# Altium footprint library ES_Pcb.PcbLib: 383 footprints (part 23 of 24)
Each footprint in its own frame and in the unit in brackets; x right, y up, seen from the top. Pads: shape width x height; smd on the part's side, far side on the other; paste and mask are expansions set on the pad; w line width, h text height; cw(c..) or ccw(c..) is an arc to the next point about the centre after c.
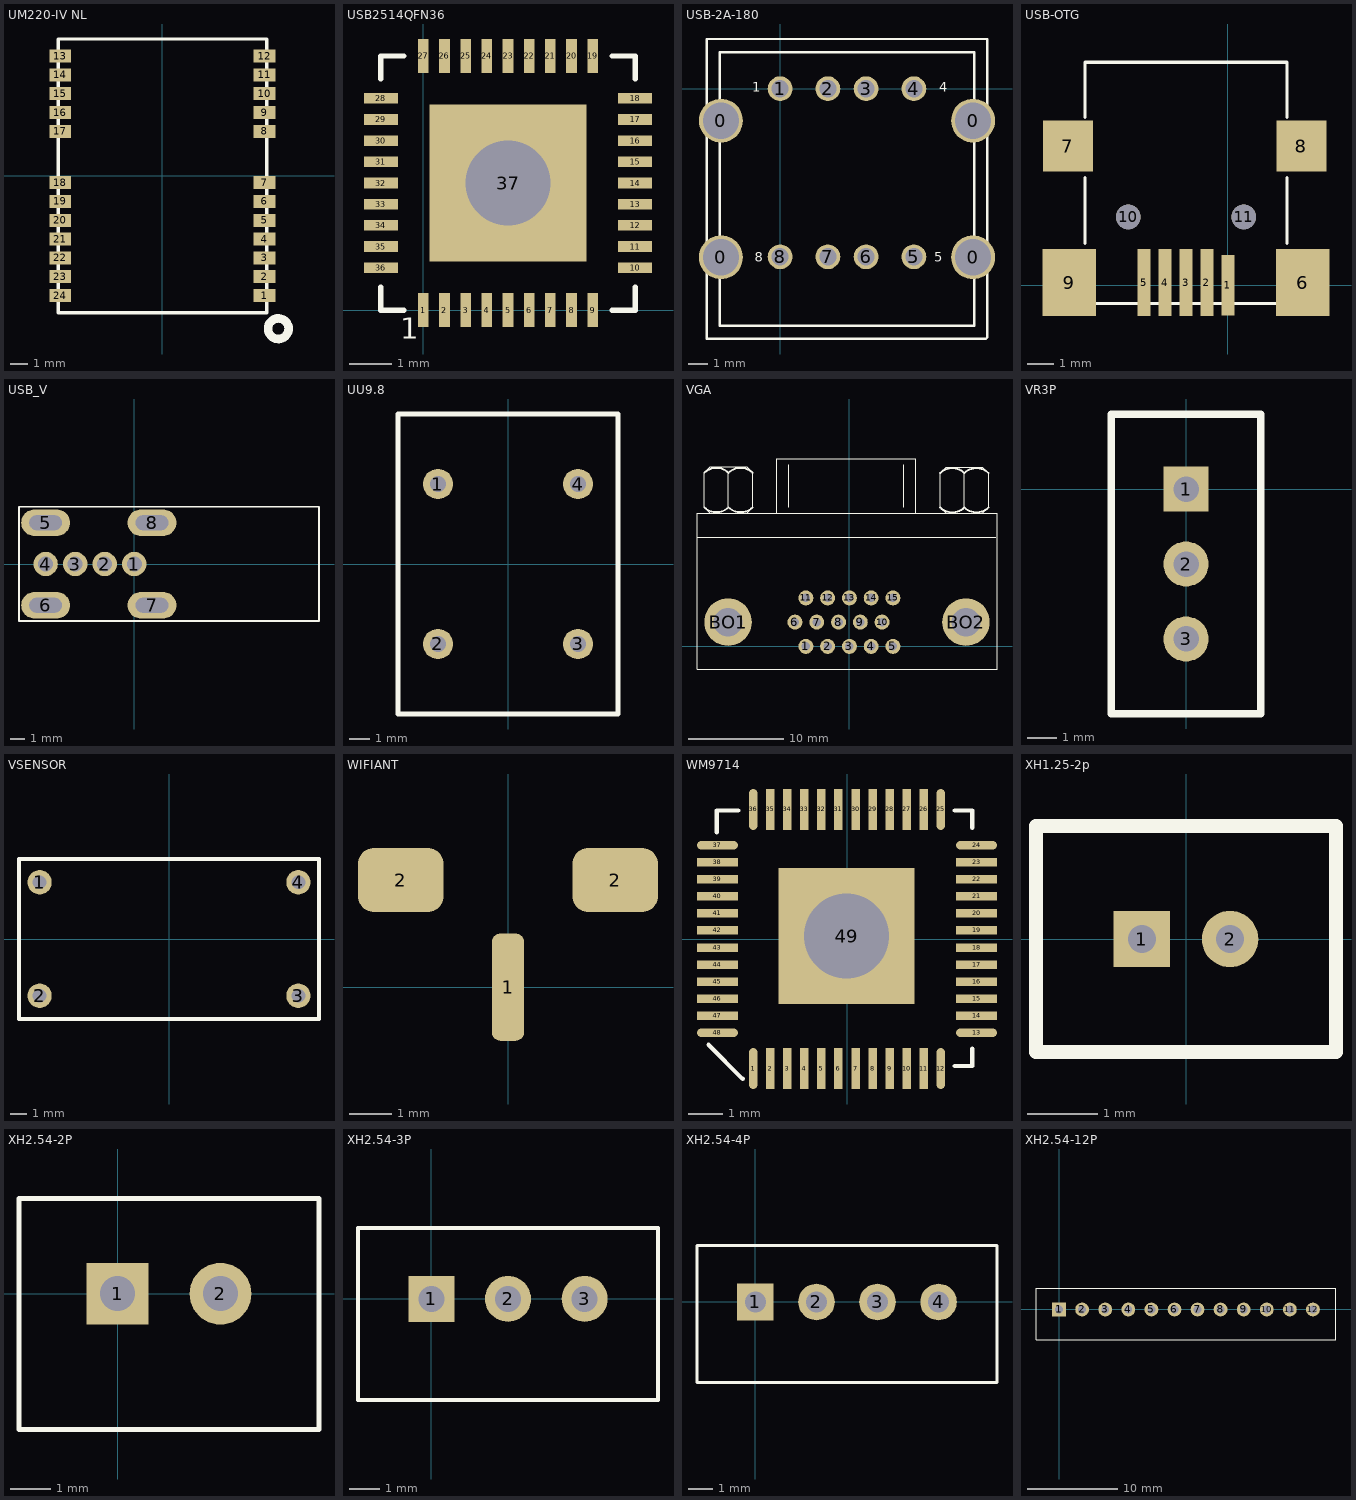
[diagram p22: the footprints below, top view; thin cyan lines are the x and y axes]

## UM220-IV NL [mm]
pads (24):
  rect 1.27x0.76 smd: 1(5.975,-7) 2(5.975,-5.9) 3(5.975,-4.8) 4(5.975,-3.7) 5(5.975,-2.6) 6(5.975,-1.5) 7(5.975,-0.4) 8(5.975,2.6) 9(5.975,3.7) 10(5.975,4.8) 11(5.975,5.9) 12(5.975,7) 13(-5.975,7) 14(-5.975,5.9) 15(-5.975,4.8) 16(-5.975,3.7) 17(-5.975,2.6) 18(-5.975,-0.4) 19(-5.975,-1.5) 20(-5.975,-2.6) 21(-5.975,-3.7) 22(-5.975,-4.8) 23(-5.975,-5.9) 24(-5.975,-7)
Top Overlay:
  circle w0.5: c6.778,-8.94 r0.602
  lines w0.2: -6.1,-8 -6.1,8 6.1,8 6.1,-8 -6.1,-8

## USB2514QFN36 [mm]
pads (37):
  rect 0.25x0.8 smd: 1(0,0) 2(0.5,0) 3(1,0) 4(1.5,0) 5(2,0) 6(2.5,0) 7(3,0) 8(3.5,0) 9(4,0) 19(4,6) 20(3.5,6) 21(3,6) 22(2.5,6) 23(2,6) 24(1.5,6) 25(1,6) 26(0.5,6) 27(0,6)
  rect 0.8x0.25 smd: 10(5,1) 11(5,1.5) 12(5,2) 13(5,2.5) 14(5,3) 15(5,3.5) 16(5,4) 17(5,4.5) 18(5,5) 28(-1,5) 29(-1,4.5) 30(-1,4) 31(-1,3.5) 32(-1,3) 33(-1,2.5) 34(-1,2) 35(-1,1.5) 36(-1,1)
  rect 3.7x3.7 hole 2: 37(2,3)
Top Overlay:
  lines w0.127: -1,0.539 -1,0 -0.461,0 ; -1,5.461 -1,6 -0.461,6 ; 4.461,0 5,0 5,0.539 ; 4.461,6 5,6 5,5.461
  text "1" at -0.54,-0.683 h0.5

## USB-2A-180 [mm]
pads (12):
  round 2.3 hole 1.9: 0(-3.1,-8.825) 0(-3.1,-1.675) 0(10.1,-8.825) 0(10.1,-1.675)
  round 1.3 hole 0.9: 1(0,0) 2(2.5,0) 3(4.5,0) 4(7,0) 5(7,-8.8) 6(4.5,-8.8) 7(2.5,-8.8) 8(0,-8.8)
Top Overlay:
  lines w0.127: -3.15,-13.1 10.15,-13.1 10.757,-13.1 10.85,-13.007 10.85,-12.4 10.85,1.9 10.85,2.586 10.836,2.6 10.15,2.6 -3.85,2.6 -3.85,-13.102 -3.848,-13.1 -3.104,-13.1 ; -3.15,-12.4 -3.15,1.9 10.15,1.9 10.15,-12.4 -3.15,-12.4
  text "1" at -1.453,-0.164 h0.5
  text "4" at 8.326,-0.164 h0.5
  text "5" at 8.072,-9.054 h0.5
  text "8" at -1.326,-9.054 h0.5

## USB-OTG [mm]
pads (11):
  rect 0.508x2.3 smd: 1(0,0)
  rect 0.508x2.54 smd: 2(-0.8,0.1) 3(-1.6,0.1) 4(-2.4,0.1) 5(-3.2,0.1)
  rect 2.032x2.54 smd: 6(2.845,0.1) 9(-6.045,0.1)
  rect 1.9x1.95 smd: 7(-6.1,5.3) 8(2.8,5.3)
  round 0.94 hole 0.94 unplated: 10(-3.8,2.6) 11(0.6,2.6)
Top Overlay:
  lines w0.127: -5.45,1.6 -5.45,4.1 ; -5.45,6.4 -5.45,8.5 2.25,8.5 2.25,6.4 ; -5.4,-0.7 2.2,-0.7 ; 2.25,1.6 2.25,4.1

## USB_V [mil]
pads (8):
  round 65 hole 40: 1(0,0) 2(-78.74,0) 3(-157.48,0) 4(-236.22,0)
  oval 130x70.87 hole 39.37 slot 86.61 at 0 deg: 5(-236.22,110) 6(-236.22,-110) 7(47.24,-110) 8(47.24,110)
Top Overlay:
  lines w5: -307.09,-151.57 492.13,-151.57 492.13,152.56 -307.09,152.56 -307.09,-151.57

## UU9.8 [mm]
pads (4):
  round 1.524 hole 0.8: 1(-3.5,4) 2(-3.5,-4) 3(3.5,-4) 4(3.5,4)
Top Overlay:
  lines w0.254: -5.5,-7.5 -5.5,7.5 5.5,7.5 5.5,-7.5 -5.5,-7.5

## VGA [mil]
pads (17):
  round 62 hole 35: 1(-180,0) 2(-90,0) 3(0,0) 4(90,0) 5(180,0) 6(-225,100) 8(-45,100) 9(45,100) 10(135,100) 11(-180,200) 12(-90,200) 13(0,200) 14(90,200) 15(180,200)
  oval 60x62 hole 35: 7(-135,100)
  round 196.67 hole 118.33: BO1(-501.67,100) BO2(481.67,100)
Top Overlay:
  lines w5: -628.33,450.83 605,450.83 ; -574.91,550.09 -599.91,575.09 -599.91,716.75 -574.91,741.75 -424.91,741.75 -399.91,716.75 -399.91,575.09 -424.91,550.09 ; -499.91,575.09 -499.91,716.75 ; -300,550 -300,775 275,775 275,550 ; -250,575 -250,750 ; 225,575 225,750 ; 400,549.17 375,574.17 375,715.83 400,740.83 550,740.83 575,715.83 575,574.17 550,549.17 ; 475,574.17 475,715.83 ; -630,-94.37 610,-94.37 610,550 -630,550 -630,-94.37
  lines w8: -600,575 ccw(c-549.91,625.09) -499.83,575 ; -600,716.84 cw(c-549.91,666.75) -499.83,716.84 ; -500,575 ccw(c-449.91,625.09) -399.83,575 ; -500,716.84 cw(c-449.91,666.75) -399.83,716.84 ; 374.91,574.08 ccw(c425,624.17) 475.09,574.08 ; 374.91,715.92 cw(c425,665.83) 475.09,715.92 ; 474.91,574.08 ccw(c525,624.17) 575.09,574.08 ; 474.91,715.92 cw(c525,665.83) 575.09,715.92

## VR3P [mil]
pads (3):
  rect 60x60 hole 34: 1(0,0)
  round 60 hole 34: 2(0,-100) 3(0,-200)
Top Overlay:
  lines w10: -100,-300 100,-300 100,100 -100,100 -100,-300

## VSENSOR [mil]
pads (4):
  round 60 hole 34: 1(-319.29,139.96) 2(-319.29,-139.96) 3(319.29,-139.96) 4(319.29,139.96)
Top Overlay:
  lines w10: -370.08,-196.85 370.08,-196.85 370.08,196.85 -370.08,196.85 -370.08,-196.85

## WIFIANT [mil]
pads (3):
  rrect50% 30x100 smd: 1(0,0)
  rrect50% 80x60 smd: 2(-100,100) 2(100,100)

## WM9714 [mm]
pads (49):
  oval 0.25x1.2 smd: 1(-2.75,-3.8) 12(2.75,-3.8) 25(2.75,3.8) 36(-2.75,3.8)
  rect 0.25x1.2 smd: 2(-2.25,-3.8) 3(-1.75,-3.8) 4(-1.25,-3.8) 5(-0.75,-3.8) 6(-0.25,-3.8) 7(0.25,-3.8) 8(0.75,-3.8) 9(1.25,-3.8) 10(1.75,-3.8) 11(2.25,-3.8) 26(2.25,3.8) 27(1.75,3.8) 28(1.25,3.8) 29(0.75,3.8) 30(0.25,3.8) 31(-0.25,3.8) 32(-0.75,3.8) 33(-1.25,3.8) 34(-1.75,3.8) 35(-2.25,3.8)
  oval 1.2x0.25 smd: 13(3.8,-2.75) 24(3.8,2.75) 37(-3.8,2.75) 48(-3.8,-2.75)
  rect 1.2x0.25 smd: 14(3.8,-2.25) 15(3.8,-1.75) 16(3.8,-1.25) 17(3.8,-0.75) 18(3.8,-0.25) 19(3.8,0.25) 20(3.8,0.75) 21(3.8,1.25) 22(3.8,1.75) 23(3.8,2.25) 38(-3.8,2.25) 39(-3.8,1.75) 40(-3.8,1.25) 41(-3.8,0.75) 42(-3.8,0.25) 43(-3.8,-0.25) 44(-3.8,-0.75) 45(-3.8,-1.25) 46(-3.8,-1.75) 47(-3.8,-2.25)
  rect 4x4 hole 2.5: 49(-0.013,0.087)
Top Overlay:
  lines w0.127: -4.061,-3.104 -3.061,-4.104 ; -3.823,3.135 -3.823,3.77 -3.188,3.77 ; 3.162,-3.723 3.67,-3.723 3.67,-3.215 ; 3.162,3.77 3.67,3.77 3.67,3.262

## XH1.25-2p [mm]
pads (2):
  rect 0.8x0.8 hole 0.4: 1(-0.625,0)
  round 0.8 hole 0.4: 2(0.625,0)
Top Overlay:
  lines w0.2: -2.125,-1.6 2.125,-1.6 2.125,1.6 -2.125,1.6 -2.125,-1.6

## XH2.54-2P [mil]
pads (2):
  rect 60x60 hole 34: 1(0,0)
  round 60 hole 34: 2(100,0)
Top Overlay:
  lines w5: -95.67,-131.89 -95.67,92.52 195.67,92.52 195.67,-131.89 -95.67,-131.89

## XH2.54-3P [mil]
pads (3):
  rect 60x60 hole 34: 1(0,0)
  round 60 hole 34: 2(100,0) 3(200,0)
Top Overlay:
  lines w5: -95.67,-131.89 -95.67,92.52 295.67,92.52 295.67,-131.89 -95.67,-131.89

## XH2.54-4P [mil]
pads (4):
  rect 60x60 hole 34: 1(0,0)
  round 60 hole 34: 2(100,0) 3(200,0) 4(300,0)
Top Overlay:
  lines w5: -95.67,-131.89 395.67,-131.89 395.67,92.52 -95.67,92.52 -95.67,-131.89

## XH2.54-12P [mil]
pads (12):
  rect 60x60 hole 34: 1(0,0)
  round 60 hole 34: 2(100,0) 3(200,0) 4(300,0) 5(400,0) 6(500,0) 7(600,0) 8(700,0) 9(800,0) 10(900,0) 11(1000,0) 12(1100,0)
Top Overlay:
  lines w5: -100,-131.89 1200,-131.89 1200,92.52 -100,92.52 -100,-131.89